# Altium integrated library TI Power Management Step-Down Regulator.IntLib: 565 symbols (part 12 of 33)
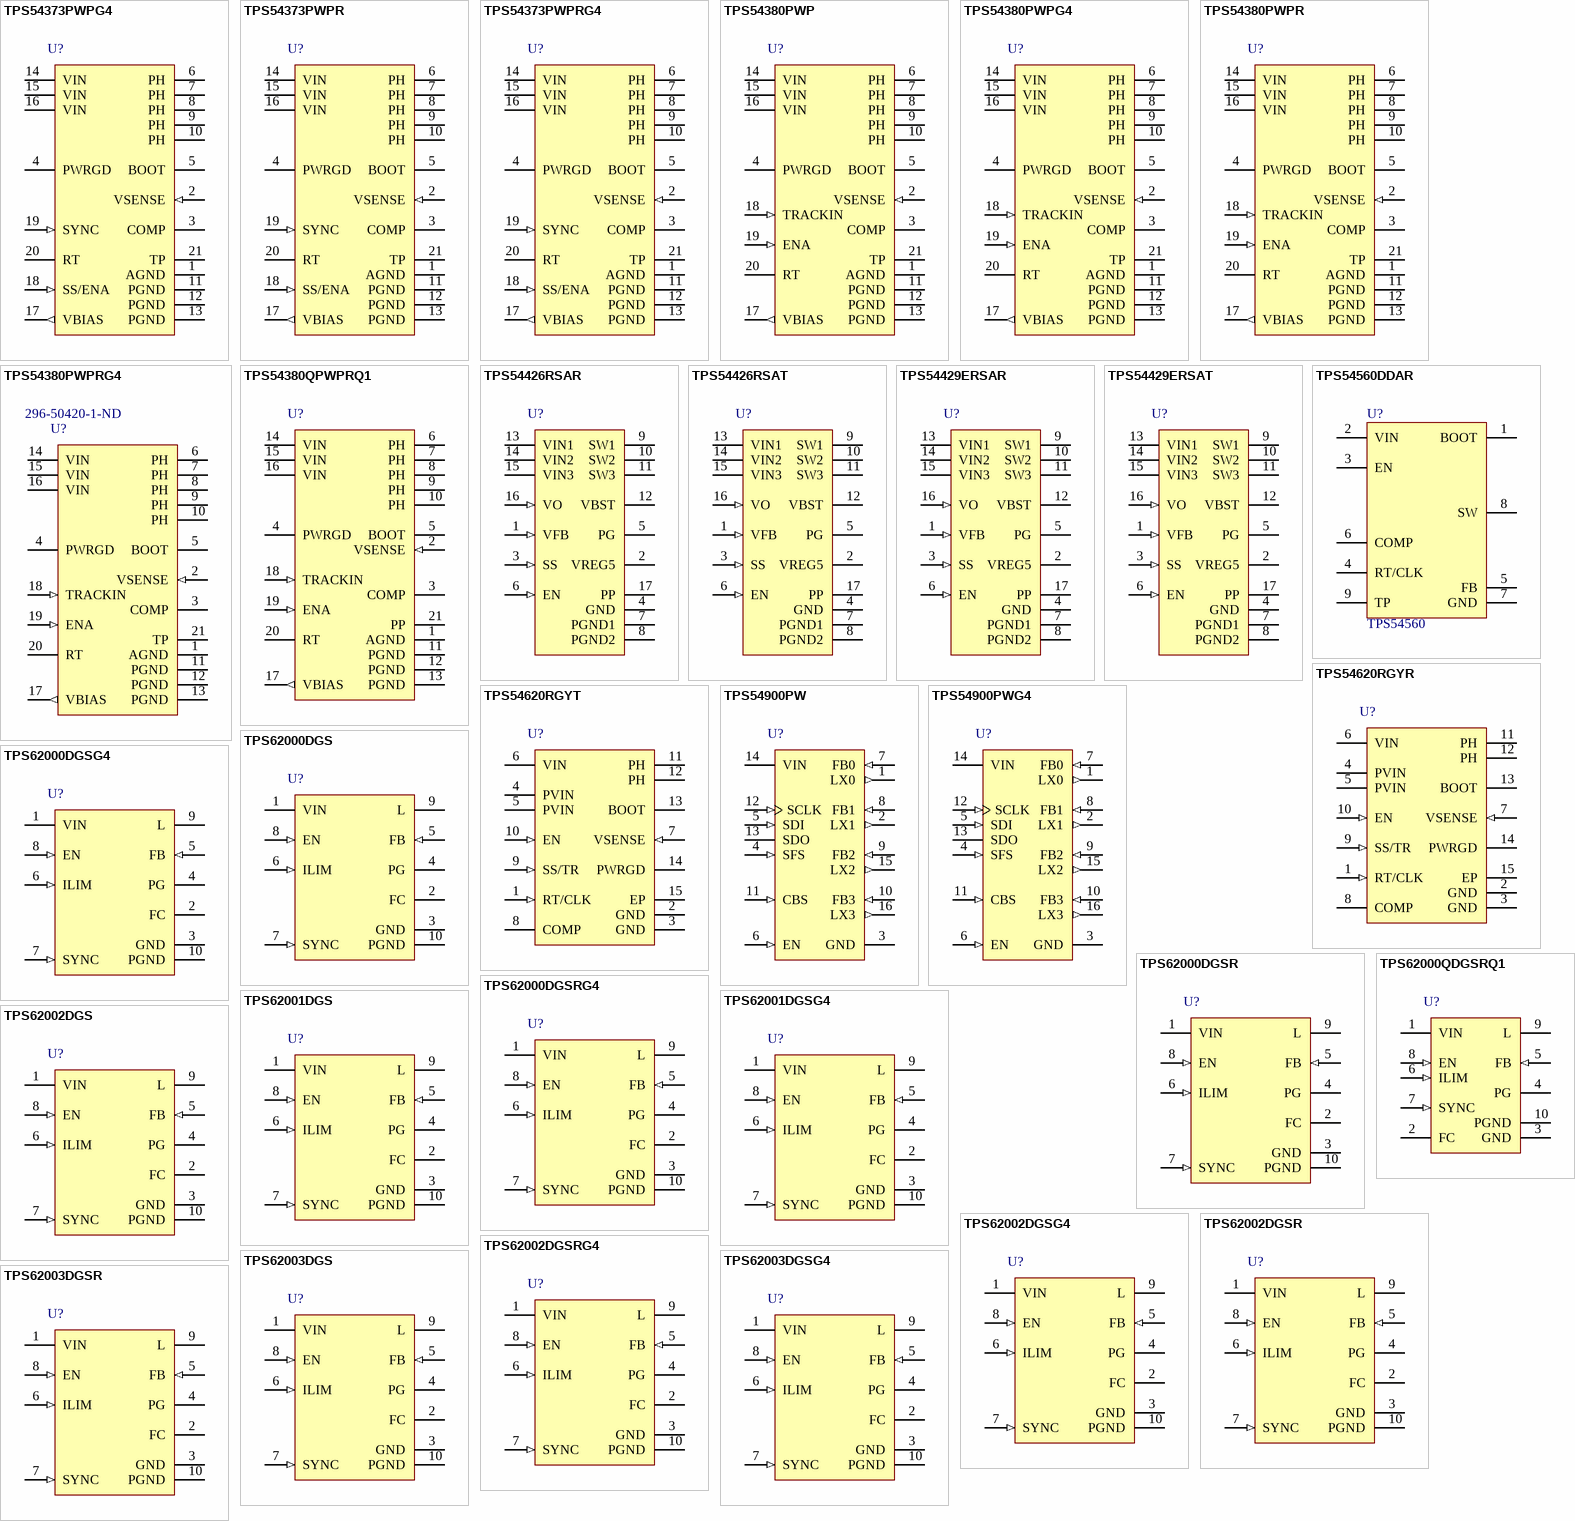
[diagram p30: symbols TPS54373PWPG4 to TPS62003DGSR]

## TPS54429ERSAT
designator U?
Buck Step Down Regulator with 7 to 18 V Input and 0.76 to 5.5 V Output, -20 to 85 degC, 16-Pin QFN (RSA), Green (RoHS & no Sb/Br); Manufacturer: Texas Instruments; PartNumber: TPS54429ERSAT; Duty Cycle(Max)(%): 98; Iout(Max)(A): 4.5; Iq(Typ)(mA): 0.6; Rating: Catalog; Regulated Outputs(#): 1; SubFamily: Step-Down Regulator; Switch Current Limit(Typ)(A): 5.3; Synchronous Rectification: TRUE; Vin(Max)(V): 18; Vin(Min)(V): 7; Vout(Max)(V): 5.5; Vout(Min)(V): 0.76; DatasheetVersion: SLVSAS0; PackageVersion: revD, Jun-2011; PackageReference: RSA16-2700X2700TP; PackageDescription: 16-Pin Plastic Quad Flatpack No-Lead 0.65 mm Pitch; Supplier 1: Digi-Key; Supplier Part Number 1: TPS54429ERSAT-ND; Eco-Plan: Green (RoHS & no Sb/Br); Topology: Buck; Mounting Technology: Surface Mount; Code_JEDEC: MO-220; ComponentLink1Description: Datasheet; ComponentLink1URL: http://www.ti.com/general/docs/lit/getliterature.tsp?genericPartNumber=TPS54429E&fileType=pdf; ComponentLink2Description: Package Specification; ComponentLink2URL: http://www.ti.com/litv/pdf/mpqf145c; ComponentLink3Description: URL Link1; ComponentLink3URL: Samples URL:http://www.ti.com/product/tps54611#samples
footprint RSA16-2700X2700TP (QFN, 16-Leads, Body 4x4mm, Pitch 0.65mm, Thermal Pad 2.7x2.7mm, TI Recommended)
pins: 1 VFB (in) "Converter feedback input. Connect to output voltage with feedback resistor divider", 2 VREG5 (power) "5.5V power supply output A capacitor (typical 1 uF) should be connected to GND. VREG5 is not active when EN is low.", 3 SS (in) "Soft-start control. A external capacitor should be connected to GND.", 4 GND (power) "Signal ground pin.", 5 PG (oc) "Open drain power good output.", 6 EN (in) "Enable control input. EN is active high and must be pulled up to enable the device.", 7 PGND1 (power) "Ground returns for low-side MOSFET. Also serve as inputs of current comparators. Connect PGND and GND strongly together near the IC.", 8 PGND2 (power) "Ground returns for low-side MOSFET. Also serve as inputs of current comparators. Connect PGND and GND strongly together near the IC.", 9 SW1 (power) "Switch node connection between high-side NFET and low-side NFET.Also serve as inputs to current comparators.", 10 SW2 (power) "Switch node connection between high-side NFET and low-side NFET.Also serve as inputs to current comparators.", 11 SW3 (power) "Switch node connection between high-side NFET and low-side NFET.Also serve as inputs to current comparators.", 12 VBST (power) "Supply input for high-side NFETgatedriver(boost terminnal )Connect capacitor from this pin to respective SW1,SW2 terminals.An internal PN diode is connected between VREG5 to VBST pin", 13 VIN1 (power) "Power input and connected to high side NFNT drain .Supply input for 5-V internal linear regulator for the control circuitry.", 14 VIN2 (power) "Power input and connected to high side NFNT drain .Supply input for 5-V internal linear regulator for the control circuitry.", 15 VIN3 (power) "Power input and connected to high side NFNT drain .Supply input for 5-V internal linear regulator for the control circuitry.", 16 VO (in) "Connect to output of converter. This terminal is used for On-Time Adjustment", 17 PP (power) "Thermal pad of the package. Must be soldered to achieve appropriate dissipation. Should be  connected to PGND"

## TPS54560DDAR
designator U?, comment TPS54560
60V/5A Non-Synchronous Buck (test spin); Manufacturer 1: Texas Instruments; Manufacturer Part Number 1: TPS54560DDAR; Switching Frequency: 2.5MHz; Number of Outputs: 1; Output Current: 5A; Min Input Voltage: 4.5V; Max Input Voltage: 60V; Output Type: Adjustable; Min Output Voltage: 800mV; Max Output Voltage: 58.8V; Synchronous Rectifier: No; Output Configuration: Positive; Quiescent Current: 146uA; Supplier 1: Digi-Key; RoHS: Yes; Category: Voltage Regulators - Switching; Stock 1: 6439; Pricing 1: 1=5,63000, 10=5,05800, 25=4,78120, 100=3,93130, 250=3,52752, 500=3,40000, 1000=2,82625 (USD); Mount: Surface Mount; Number of Pins: 8; Min Operating Temperature: -40°C; Max Operating Temperature: 125°C; Packaging: Tape and Reel; Package Quantity: 1; Output Voltage: 58.8V; Max Output Current: 5A; Min Supply Voltage: 4.5V; Radiation Hardening: No; Lead Free: Lead Free; REACH SVHC: No SVHC; ComponentLink1URL: https://datasheet.ciiva.com/30031/tps54560-30031578.pdf?src-supplier=Avnet; ComponentLink1Description: https://datasheet.ciiva.com/30031/tps54560-30031578.pdf?src-supplier=Avnet; ComponentLink2URL: https://datasheet.ciiva.com/29739/tps54560-29739549.pdf?src-supplier=Digi-Key; ComponentLink2Description: https://datasheet.ciiva.com/29739/tps54560-29739549.pdf?src-supplier=Digi-Key; ComponentLink3URL: https://datasheet.ciiva.com/15082/tps54560-15082015.pdf?src-supplier=Digi-Key; ComponentLink3Description: https://datasheet.ciiva.com/15082/tps54560-15082015.pdf?src-supplier=Digi-Key; Value: TPS54560; Supplier Part Number 1: 296-36527-6-ND
footprint SOIC8-PWR (SOIC, 8-Leads, Body 4,90x3,90mm, Pitch 1,27mm, Thermal Pad 3,10x2,40mm, IPC Medium Density)
pins: 1 BOOT, 2 VIN, 3 EN, 4 RT/CLK, 5 FB, 6 COMP, 7 GND, 8 SW, 9 TP

## TPS54620RGYR
designator U?
Buck Step Down Regulator with 4.5 to 17 V Input and 0.8 to 15 V Output, -40 to 150 degC, 14-Pin VQFN (RGY), Green (RoHS & no Sb/Br); Manufacturer: Texas Instruments; PartNumber: TPS54620RGYR; Duty Cycle(Max)(%): 98; Iout(Max)(A): 6; Iq(Typ)(mA): 0.6; Rating: Catalog; Regulated Outputs(#): 1; SubFamily: Step-Down Regulator; Switch Current Limit(Typ)(A): 8; Synchronous Rectification: TRUE; Vin(Max)(V): 17; Vin(Min)(V): 4.5; Vout(Max)(V): 15; Vout(Min)(V): 0.8; DatasheetVersion: SLVS949C; PackageVersion: revI, Jun-2011; PackageReference: RGY14-2050X2050TP; PackageDescription: 14-Leads Plastic Quad Flatpack No-Lead, 3.5 x 3.5 x 0.9 mm Body, 0.5 mm Pitch; Supplier 1: Digi-Key; Supplier Part Number 1: 296-24554-2-ND; Eco-Plan: Green (RoHS & no Sb/Br); Topology: Buck; Mounting Technology: Surface Mount; Code_JEDEC: MO-241-BA; ComponentLink1Description: Datasheet; ComponentLink1URL: http://www.ti.com/general/docs/lit/getliterature.tsp?genericPartNumber=TPS54620&fileType=pdf; ComponentLink2Description: Package Specification; ComponentLink2URL: http://www.ti.com/litv/pdf/mpqf114g; ComponentLink3Description: URL Link1; ComponentLink3URL: Samples URL:http://www.ti.com/product/tps54620#samples
footprint RGY14-2050X2050TP (QFN, 14-Leads, Body 3.5x3.5mm, Pitch 0.5mm, Thermal Pad 2.05x2.05mm, TI Recommended)
pins: 1 RT/CLK (in) "Automatically selects between RT mode and CLK mode. An external timing resistor adjusts the switching frequency of the device; In CLK mode, the device synchronizes to an external clock.", 2 GND (power) "Return for control circuitry and low-side power MOSFET.", 3 GND (power) "Return for control circuitry and low-side power MOSFET.", 4 PVIN (power) "Power input. Supplies the power switches of the power converter", 5 PVIN (power) "Power input. Supplies the power switches of the power converter", 6 VIN (power) "Supplies the control circuitry of the power converter.", 7 VSENSE (in) "Inverting input of the gm error amplifier", 8 COMP "Error amplifier output, and input to the output switch current comparator. Connect frequency compensation to this pin.", 9 SS/TR (in) "Slow-start and tracking. An external capacitor connected to this pin sets the internal voltage reference rise time. The voltage on this pin overrides the internal reference. It can be used for tracking and sequencing.", 10 EN (in) "Enable pin. Float to enable. Adjust the input undervoltage lockout with two resistors.", 11 PH (power) "The switch node", 12 PH (power) "The switch node", 13 BOOT "A bootstrap cap is required between BOOT and PH. The voltage on this cap carries the gate drive voltage for the high-side MOSFET", 14 PWRGD (oc) "Power Good fault pin. Asserts low if output voltage is low due to thermal shutdown, dropout, over-voltage, EN shutdown or during slow start", 15 EP (power) "Thermal pad of the package and signal ground and it must be soldered down for proper operation"

## TPS54620RGYT
designator U?
Buck Step Down Regulator with 4.5 to 17 V Input and 0.8 to 15 V Output, -40 to 150 degC, 14-Pin VQFN (RGY), Green (RoHS & no Sb/Br); Manufacturer: Texas Instruments; PartNumber: TPS54620RGYT; Duty Cycle(Max)(%): 98; Iout(Max)(A): 6; Iq(Typ)(mA): 0.6; Rating: Catalog; Regulated Outputs(#): 1; SubFamily: Step-Down Regulator; Switch Current Limit(Typ)(A): 8; Synchronous Rectification: TRUE; Vin(Max)(V): 17; Vin(Min)(V): 4.5; Vout(Max)(V): 15; Vout(Min)(V): 0.8; DatasheetVersion: SLVS949C; PackageVersion: revI, Jun-2011; PackageReference: RGY14-2050X2050TP; PackageDescription: 14-Leads Plastic Quad Flatpack No-Lead, 3.5 x 3.5 x 0.9 mm Body, 0.5 mm Pitch; Supplier 1: Digi-Key; Supplier Part Number 1: 296-24568-2-ND; Eco-Plan: Green (RoHS & no Sb/Br); Topology: Buck; Mounting Technology: Surface Mount; Code_JEDEC: MO-241-BA; ComponentLink1Description: Datasheet; ComponentLink1URL: http://www.ti.com/general/docs/lit/getliterature.tsp?genericPartNumber=TPS54620&fileType=pdf; ComponentLink2Description: Package Specification; ComponentLink2URL: http://www.ti.com/litv/pdf/mpqf114g; ComponentLink3Description: URL Link1; ComponentLink3URL: Samples URL:http://www.ti.com/product/tps54620#samples
footprint RGY14-2050X2050TP (QFN, 14-Leads, Body 3.5x3.5mm, Pitch 0.5mm, Thermal Pad 2.05x2.05mm, TI Recommended)
pins: 1 RT/CLK (in) "Automatically selects between RT mode and CLK mode. An external timing resistor adjusts the switching frequency of the device; In CLK mode, the device synchronizes to an external clock.", 2 GND (power) "Return for control circuitry and low-side power MOSFET.", 3 GND (power) "Return for control circuitry and low-side power MOSFET.", 4 PVIN (power) "Power input. Supplies the power switches of the power converter", 5 PVIN (power) "Power input. Supplies the power switches of the power converter", 6 VIN (power) "Supplies the control circuitry of the power converter.", 7 VSENSE (in) "Inverting input of the gm error amplifier", 8 COMP "Error amplifier output, and input to the output switch current comparator. Connect frequency compensation to this pin.", 9 SS/TR (in) "Slow-start and tracking. An external capacitor connected to this pin sets the internal voltage reference rise time. The voltage on this pin overrides the internal reference. It can be used for tracking and sequencing.", 10 EN (in) "Enable pin. Float to enable. Adjust the input undervoltage lockout with two resistors.", 11 PH (power) "The switch node", 12 PH (power) "The switch node", 13 BOOT "A bootstrap cap is required between BOOT and PH. The voltage on this cap carries the gate drive voltage for the high-side MOSFET", 14 PWRGD (oc) "Power Good fault pin. Asserts low if output voltage is low due to thermal shutdown, dropout, over-voltage, EN shutdown or during slow start", 15 EP (power) "Thermal pad of the package and signal ground and it must be soldered down for proper operation"

## TPS54900PW
designator U?
Buck Step Down Regulator with 14.25 to 16 V Input and 7.5 to 13.1 V Output, -40 to 85 degC, 16-Pin TSSOP (PW); Manufacturer: Texas Instruments; PartNumber: TPS54900PW; Duty Cycle(Max)(%): 90; Iout(Max)(A): 0.1; Iq(Typ)(mA): 0.7; Rating: Catalog; Regulated Outputs(#): 4; SubFamily: Step-Down Regulator; Switch Current Limit(Typ)(A): 0.25; Vin(Max)(V): 16; Vin(Min)(V): 14.25; Vout(Max)(V): 13.1; Vout(Min)(V): 7.5; DatasheetVersion: SLVS405; PackageVersion: revG, Feb-2011; PackageReference: PW16; PackageDescription: 16-Pin Plastic Thin Small Outline Package 5 x 4.4 mm Body ,0.65 mm Pitch; Supplier 1: Digi-Key; Supplier Part Number 1: 296-13408-5-ND; Iout2(Max)(A): 0.1; Topology: Buck; Vout2(Max)(V): 13.1; Vout2(Min)(V): 7.5; Mounting Technology: Surface Mount; Code_JEDEC: MO-153; ComponentLink1Description: Datasheet; ComponentLink1URL: http://www.ti.com/general/docs/lit/getliterature.tsp?genericPartNumber=TPS54900&fileType=pdf; ComponentLink2Description: Package Specification; ComponentLink2URL: http://www.ti.com/litv/pdf/mpds361; ComponentLink3Description: URL Link1; ComponentLink3URL: Samples URL:http://www.ti.com/product/tps54900#samples
footprint PW16_N (TSOP, 16-Leads, Body 5x4.4mm, Pitch 0.65mm, IPC Medium Density)
footprint PW16_L (TSOP, 16-Leads, Body 5x4.4mm, Pitch 0.65mm, IPC High Density)
footprint PW16_M (TSOP, 16-Leads, Body 5x4.4mm, Pitch 0.65mm, IPC Low Density)
pins: 1 LX0 (out) "Channel 0 switch output", 2 LX1 (out) "Channel 1 switch output", 3 GND (power) "Ground", 4 SFS (in) "Frame sync input", 5 SDI (in) "Serial data in", 6 EN (in) "Enable", 7 FB0 (in) "Channel 0 feedback input", 8 FB1 (in) "Channel 1 feedback input", 9 FB2 (in) "Channel 2 feedback input", 10 FB3 (in) "Channel 3 feedback input", 11 CBS (in) "Channel bank select", 12 SCLK (in) "Serial clock input", 13 SDO (oc) "Serial data out", 14 VIN (power) "Input supply voltage", 15 LX2 (out) "Channel 2 switch output", 16 LX3 (out) "Channel 3 switch output"

## TPS54900PWG4
designator U?
Buck Step Down Regulator with 14.25 to 16 V Input and 7.5 to 13.1 V Output, -40 to 85 degC, 16-Pin TSSOP (PW); Manufacturer: Texas Instruments; PartNumber: TPS54900PWG4; Duty Cycle(Max)(%): 90; Iout(Max)(A): 0.1; Iq(Typ)(mA): 0.7; Rating: Catalog; Regulated Outputs(#): 4; SubFamily: Step-Down Regulator; Switch Current Limit(Typ)(A): 0.25; Vin(Max)(V): 16; Vin(Min)(V): 14.25; Vout(Max)(V): 13.1; Vout(Min)(V): 7.5; DatasheetVersion: SLVS405; PackageVersion: revG, Feb-2011; PackageReference: PW16; PackageDescription: 16-Pin Plastic Thin Small Outline Package 5 x 4.4 mm Body ,0.65 mm Pitch; Supplier 1: Digi-Key; Supplier Part Number 1: TPS54900PWG4-ND; Iout2(Max)(A): 0.1; Topology: Buck; Vout2(Max)(V): 13.1; Vout2(Min)(V): 7.5; Mounting Technology: Surface Mount; Code_JEDEC: MO-153; ComponentLink1Description: Datasheet; ComponentLink1URL: http://www.ti.com/general/docs/lit/getliterature.tsp?genericPartNumber=TPS54900&fileType=pdf; ComponentLink2Description: Package Specification; ComponentLink2URL: http://www.ti.com/litv/pdf/mpds361; ComponentLink3Description: URL Link1; ComponentLink3URL: Samples URL:http://www.ti.com/product/tps54611#samples
footprint PW16_N (TSOP, 16-Leads, Body 5x4.4mm, Pitch 0.65mm, IPC Medium Density)
footprint PW16_L (TSOP, 16-Leads, Body 5x4.4mm, Pitch 0.65mm, IPC High Density)
footprint PW16_M (TSOP, 16-Leads, Body 5x4.4mm, Pitch 0.65mm, IPC Low Density)
pins: 1 LX0 (out) "Channel 0 switch output", 2 LX1 (out) "Channel 1 switch output", 3 GND (power) "Ground", 4 SFS (in) "Frame sync input", 5 SDI (in) "Serial data in", 6 EN (in) "Enable", 7 FB0 (in) "Channel 0 feedback input", 8 FB1 (in) "Channel 1 feedback input", 9 FB2 (in) "Channel 2 feedback input", 10 FB3 (in) "Channel 3 feedback input", 11 CBS (in) "Channel bank select", 12 SCLK (in) "Serial clock input", 13 SDO (oc) "Serial data out", 14 VIN (power) "Input supply voltage", 15 LX2 (out) "Channel 2 switch output", 16 LX3 (out) "Channel 3 switch output"

## TPS62000DGS
designator U?
Buck Step-Down Regulator with 2 V to 5.5 V Input and 0.9 V to 5 V Output, -40 to 85 degC, 10-Pin MSOP (DGS), Green (RoHS & no Sb/Br); Manufacturer: Texas Instruments; PartNumber: TPS62000DGS; Duty Cycle(Max)(%): 100; Iout(Max)(A): 0.6; Iq(Typ)(mA): 0.05; Rating: Catalog; Regulated Outputs(#): 1; Switch Current Limit(Typ)(A): 1.6; Synchronous Rectification: TRUE; Vin(Max)(V): 5.5; Vin(Min)(V): 2; Vout(Max)(V): 5; Vout(Min)(V): 0.9; DatasheetVersion: SLVS294E; PackageVersion: revC, Feb-2004; PackageReference: DGS10; PackageDescription: 10-Pin Thin Shrink Small Outline Package 0.5 mm Pitch; Supplier 1: Digi-Key; Supplier Part Number 1: 296-27018-5-ND; Eco-Plan: Green (RoHS & no Sb/Br); SubFamily: Step-Down Regulator; Topology: Buck; Mounting Technology: Surface Mount; Code_JEDEC: MO-187-BA; ComponentLink1Description: Datasheet; ComponentLink1URL: http://www.ti.com/general/docs/lit/getliterature.tsp?genericPartNumber=TPS62000&fileType=pdf; ComponentLink2Description: Package Specification; ComponentLink2URL: http://www.ti.com/litv/pdf/mpds373
footprint DGS10_N (TSSOP, 10-Leads, Body 3x3mm, Pitch 0.5mm, IPC Medium Density)
footprint DGS10_L (TSSOP, 10-Leads, Body 3x3mm, Pitch 0.5mm, IPC High Density)
footprint DGS10_M (TSSOP, 10-Leads, Body 3x3mm, Pitch 0.5mm, IPC Low Density)
pins: 1 VIN (power) "Supply voltage input", 2 FC "Supply bypass pin. A 0.1 µF coupling capacitor should be connected as close as possible to this pin for good high frequency input voltage supply filtering.", 3 GND (power) "Ground", 4 PG (hiz) "Power good comparator output. This is an open-drain output. A pullup resistor should be connected between PG and VO. The output goes active high when the output voltage is greater than 92% of the nominal value.", 5 FB (in) "Feedback pin for the fixed output voltage option. For the adjustable version an external resistive divider is connected to FB. The internal voltage divider is disabled for the adjustable version.", 6 ILIM (in) "Switch current limit. Connect ILIM to GND to set the switch current limit to typically 600 mA, or connect this pin to VIN to set the current limit to typically 1200 mA.", 7 SYNC (in) "Input for synchronization to external clock signal. Synchronizes the converter switching frequency to an external clock signal with CMOS level:SYNC = HIGH: Low-noise mode enabled, fixed frequency PWM operation is forced SYNC (See Datasheet)", 8 EN (in) "Enable. A logic high enables the converter, logic low forces the device into shutdown mode reducing the supply current to less than 1 uA.", 9 L (power) "Connect the inductor to this pin. L is the switch pin connected to the drain of the internal power MOSFETS", 10 PGND (power) "Power ground. Connect all power grounds to PGND."

## TPS62000DGSG4
designator U?
Buck Step-Down Regulator with 2 V to 5.5 V Input and 0.9 V to 5 V Output, -40 to 85 degC, 10-Pin MSOP (DGS), Green (RoHS & no Sb/Br); Manufacturer: Texas Instruments; PartNumber: TPS62000DGSG4; Duty Cycle(Max)(%): 100; Iout(Max)(A): 0.6; Iq(Typ)(mA): 0.05; Rating: Catalog; Regulated Outputs(#): 1; Switch Current Limit(Typ)(A): 1.6; Synchronous Rectification: TRUE; Vin(Max)(V): 5.5; Vin(Min)(V): 2; Vout(Max)(V): 5; Vout(Min)(V): 0.9; DatasheetVersion: SLVS294E; PackageVersion: revC, Feb-2004; PackageReference: DGS10; PackageDescription: 10-Pin Thin Shrink Small Outline Package 0.5 mm Pitch; Supplier 1: Digi-Key; Supplier Part Number 1: TPS62000DGSG4-ND; Eco-Plan: Green (RoHS & no Sb/Br); SubFamily: Step-Down Regulator; Topology: Buck; Mounting Technology: Surface Mount; Code_JEDEC: MO-187-BA; ComponentLink1Description: Datasheet; ComponentLink1URL: http://www.ti.com/general/docs/lit/getliterature.tsp?genericPartNumber=TPS62000&fileType=pdf; ComponentLink2Description: Package Specification; ComponentLink2URL: http://www.ti.com/litv/pdf/mpds373
footprint DGS10_N (TSSOP, 10-Leads, Body 3x3mm, Pitch 0.5mm, IPC Medium Density)
footprint DGS10_L (TSSOP, 10-Leads, Body 3x3mm, Pitch 0.5mm, IPC High Density)
footprint DGS10_M (TSSOP, 10-Leads, Body 3x3mm, Pitch 0.5mm, IPC Low Density)
pins: 1 VIN (power) "Supply voltage input", 2 FC "Supply bypass pin. A 0.1 µF coupling capacitor should be connected as close as possible to this pin for good high frequency input voltage supply filtering.", 3 GND (power) "Ground", 4 PG (hiz) "Power good comparator output. This is an open-drain output. A pullup resistor should be connected between PG and VO. The output goes active high when the output voltage is greater than 92% of the nominal value.", 5 FB (in) "Feedback pin for the fixed output voltage option. For the adjustable version an external resistive divider is connected to FB. The internal voltage divider is disabled for the adjustable version.", 6 ILIM (in) "Switch current limit. Connect ILIM to GND to set the switch current limit to typically 600 mA, or connect this pin to VIN to set the current limit to typically 1200 mA.", 7 SYNC (in) "Input for synchronization to external clock signal. Synchronizes the converter switching frequency to an external clock signal with CMOS level:SYNC = HIGH: Low-noise mode enabled, fixed frequency PWM operation is forced SYNC (See Datasheet)", 8 EN (in) "Enable. A logic high enables the converter, logic low forces the device into shutdown mode reducing the supply current to less than 1 uA.", 9 L (power) "Connect the inductor to this pin. L is the switch pin connected to the drain of the internal power MOSFETS", 10 PGND (power) "Power ground. Connect all power grounds to PGND."

## TPS62000DGSR
designator U?
Buck Step-Down Regulator with 2 V to 5.5 V Input and 0.9 V to 5 V Output, -40 to 85 degC, 10-Pin MSOP (DGS), Green (RoHS & no Sb/Br); Manufacturer: Texas Instruments; PartNumber: TPS62000DGSR; Duty Cycle(Max)(%): 100; Iout(Max)(A): 0.6; Iq(Typ)(mA): 0.05; Rating: Catalog; Regulated Outputs(#): 1; Switch Current Limit(Typ)(A): 1.6; Synchronous Rectification: TRUE; Vin(Max)(V): 5.5; Vin(Min)(V): 2; Vout(Max)(V): 5; Vout(Min)(V): 0.9; DatasheetVersion: SLVS294E; PackageVersion: revC, Feb-2004; PackageReference: DGS10; PackageDescription: 10-Pin Thin Shrink Small Outline Package 0.5 mm Pitch; Supplier 1: Digi-Key; Supplier Part Number 1: 296-11611-2-ND; Eco-Plan: Green (RoHS & no Sb/Br); SubFamily: Step-Down Regulator; Topology: Buck; Mounting Technology: Surface Mount; Code_JEDEC: MO-187-BA; ComponentLink1Description: Datasheet; ComponentLink1URL: http://www.ti.com/general/docs/lit/getliterature.tsp?genericPartNumber=TPS62000&fileType=pdf; ComponentLink2Description: Package Specification; ComponentLink2URL: http://www.ti.com/litv/pdf/mpds373
footprint DGS10_N (TSSOP, 10-Leads, Body 3x3mm, Pitch 0.5mm, IPC Medium Density)
footprint DGS10_L (TSSOP, 10-Leads, Body 3x3mm, Pitch 0.5mm, IPC High Density)
footprint DGS10_M (TSSOP, 10-Leads, Body 3x3mm, Pitch 0.5mm, IPC Low Density)
pins: 1 VIN (power) "Supply voltage input", 2 FC "Supply bypass pin. A 0.1 µF coupling capacitor should be connected as close as possible to this pin for good high frequency input voltage supply filtering.", 3 GND (power) "Ground", 4 PG (hiz) "Power good comparator output. This is an open-drain output. A pullup resistor should be connected between PG and VO. The output goes active high when the output voltage is greater than 92% of the nominal value.", 5 FB (in) "Feedback pin for the fixed output voltage option. For the adjustable version an external resistive divider is connected to FB. The internal voltage divider is disabled for the adjustable version.", 6 ILIM (in) "Switch current limit. Connect ILIM to GND to set the switch current limit to typically 600 mA, or connect this pin to VIN to set the current limit to typically 1200 mA.", 7 SYNC (in) "Input for synchronization to external clock signal. Synchronizes the converter switching frequency to an external clock signal with CMOS level:SYNC = HIGH: Low-noise mode enabled, fixed frequency PWM operation is forced SYNC (See Datasheet)", 8 EN (in) "Enable. A logic high enables the converter, logic low forces the device into shutdown mode reducing the supply current to less than 1 uA.", 9 L (power) "Connect the inductor to this pin. L is the switch pin connected to the drain of the internal power MOSFETS", 10 PGND (power) "Power ground. Connect all power grounds to PGND."

## TPS62000DGSRG4
designator U?
Buck Step-Down Regulator with 2 V to 5.5 V Input and 0.9 V to 5 V Output, -40 to 85 degC, 10-Pin MSOP (DGS), Green (RoHS & no Sb/Br); Manufacturer: Texas Instruments; PartNumber: TPS62000DGSRG4; Duty Cycle(Max)(%): 100; Iout(Max)(A): 0.6; Iq(Typ)(mA): 0.05; Rating: Catalog; Regulated Outputs(#): 1; Switch Current Limit(Typ)(A): 1.6; Synchronous Rectification: TRUE; Vin(Max)(V): 5.5; Vin(Min)(V): 2; Vout(Max)(V): 5; Vout(Min)(V): 0.9; DatasheetVersion: SLVS294E; PackageVersion: revC, Feb-2004; PackageReference: DGS10; PackageDescription: 10-Pin Thin Shrink Small Outline Package 0.5 mm Pitch; Supplier 1: Digi-Key; Supplier Part Number 1: TPS62000DGSRG4-ND; Eco-Plan: Green (RoHS & no Sb/Br); SubFamily: Step-Down Regulator; Topology: Buck; Mounting Technology: Surface Mount; Code_JEDEC: MO-187-BA; ComponentLink1Description: Datasheet; ComponentLink1URL: http://www.ti.com/general/docs/lit/getliterature.tsp?genericPartNumber=TPS62000&fileType=pdf; ComponentLink2Description: Package Specification; ComponentLink2URL: http://www.ti.com/litv/pdf/mpds373
footprint DGS10_N (TSSOP, 10-Leads, Body 3x3mm, Pitch 0.5mm, IPC Medium Density)
footprint DGS10_L (TSSOP, 10-Leads, Body 3x3mm, Pitch 0.5mm, IPC High Density)
footprint DGS10_M (TSSOP, 10-Leads, Body 3x3mm, Pitch 0.5mm, IPC Low Density)
pins: 1 VIN (power) "Supply voltage input", 2 FC "Supply bypass pin. A 0.1 µF coupling capacitor should be connected as close as possible to this pin for good high frequency input voltage supply filtering.", 3 GND (power) "Ground", 4 PG (hiz) "Power good comparator output. This is an open-drain output. A pullup resistor should be connected between PG and VO. The output goes active high when the output voltage is greater than 92% of the nominal value.", 5 FB (in) "Feedback pin for the fixed output voltage option. For the adjustable version an external resistive divider is connected to FB. The internal voltage divider is disabled for the adjustable version.", 6 ILIM (in) "Switch current limit. Connect ILIM to GND to set the switch current limit to typically 600 mA, or connect this pin to VIN to set the current limit to typically 1200 mA.", 7 SYNC (in) "Input for synchronization to external clock signal. Synchronizes the converter switching frequency to an external clock signal with CMOS level:SYNC = HIGH: Low-noise mode enabled, fixed frequency PWM operation is forced SYNC (See Datasheet)", 8 EN (in) "Enable. A logic high enables the converter, logic low forces the device into shutdown mode reducing the supply current to less than 1 uA.", 9 L (power) "Connect the inductor to this pin. L is the switch pin connected to the drain of the internal power MOSFETS", 10 PGND (power) "Power ground. Connect all power grounds to PGND."

## TPS62000QDGSRQ1
designator U?
Buck Step Down Regulator with 2 to 5.5 V Input and 0.9 to 5 V Output, -40 to 125 degC, 10-Pin MSOP (DGS), Green (RoHS & no Sb/Br); Manufacturer: Texas Instruments; PartNumber: TPS62000QDGSRQ1; Duty Cycle(Max)(%): 100; Iout(Max)(A): 0.6; Iq(Typ)(mA): 0.05; Rating: Automotive; Regulated Outputs(#): 1; SubFamily: Step-Down Regulator; Switch Current Limit(Typ)(A): 1.6; Synchronous Rectification: TRUE; Vin(Max)(V): 5.5; Vin(Min)(V): 2; Vout(Max)(V): 5; Vout(Min)(V): 0.9; DatasheetVersion: SGLS243A; PackageVersion: revC, Feb-2004; PackageReference: DGS10; PackageDescription: 10-Pin Thin Shrink Small Outline Package 0.5 mm Pitch; Supplier 1: Digi-Key; Supplier Part Number 1: 296-23767-2-ND; Eco-Plan: Green (RoHS & no Sb/Br); Topology: Buck; Mounting Technology: Surface Mount; Code_JEDEC: MO-187-BA; ComponentLink1Description: Datasheet; ComponentLink1URL: http://www.ti.com/general/docs/lit/getliterature.tsp?genericPartNumber=TPS62000-Q1&fileType=pdf; ComponentLink2Description: Package Specification; ComponentLink2URL: http://www.ti.com/litv/pdf/mpds373; ComponentLink3Description: URL Link1; ComponentLink3URL: Samples URL:http://www.ti.com/product/tps54611#samples
footprint DGS10_N (TSSOP, 10-Leads, Body 3x3mm, Pitch 0.5mm, IPC Medium Density)
footprint DGS10_L (TSSOP, 10-Leads, Body 3x3mm, Pitch 0.5mm, IPC High Density)
footprint DGS10_M (TSSOP, 10-Leads, Body 3x3mm, Pitch 0.5mm, IPC Low Density)
pins: 1 VIN (power) "Supply voltage input", 2 FC "Supply bypass pin. A 0.1-µF coupling capacitor should be connected as close as possible to this pin for good high frequency input voltage supply filtering.", 3 GND (power) "Ground", 4 PG (hiz) "Power good comparator output. This is an open-drain output. A pullup resistor should be connected between PG and VO. The output goes active high when the output voltage is greater than 92% of the nominal value.", 5 FB (in) "Feedback pin for the fixed output voltage option. For the adjustable version, an external resistive divider is connected to FB. The internal voltage divider is disabled for the adjustable version.", 6 ILIM (in) "Switch current limit. Connect ILIM to GND to set the switch current limit to typically 600 mA, or connect this pin to VIN to set the current limit to typically 1200 mA.", 7 SYNC (in) "Input for synchronization to external clock signal. Synchronizes the converter switching frequency to an external clock signal with CMOS level: SYNC = High: Low-noise mode enabled, fixed frequency PWM operation is forced (See Datasheet)", 8 EN (in) "Enable. A logic high enables the converter and a logic low forces the device into shutdown mode reducing the supply current to less than 1 µA.", 9 L (power) "Connect the inductor to this pin. L is the switch pin connected to the drain of the internal power MOSFETS.", 10 PGND (power) "Power ground. Connect all power grounds to PGND."

## TPS62001DGS
designator U?
Buck Step-Down Regulator with 2 V to 5.5 V Input and 0.9 V Output, -40 to 85 degC, 10-Pin MSOP (DGS); Manufacturer: Texas Instruments; PartNumber: TPS62001DGS; Duty Cycle(Max)(%): 100; Eco-Plan: TBD; Iout(Max)(A): 0.6; Iq(Typ)(mA): 0.05; Preset Vout(V): 0.9; Rating: Catalog; Regulated Outputs(#): 1; Switch Current Limit(Typ)(A): 1.6; Synchronous Rectification: TRUE; Vin(Max)(V): 5.5; Vin(Min)(V): 2; DatasheetVersion: SLVS294E; PackageVersion: revC, Feb-2004; PackageReference: DGS10; PackageDescription: 10-Pin Thin Shrink Small Outline Package 0.5 mm Pitch; Supplier 1: Digi-Key; Supplier Part Number 1: TPS62001DGS-ND; SubFamily: Step-Down Regulator; Topology: Buck; Vout(Max)(V): 0.9; Vout(Min)(V): 0.9; Mounting Technology: Surface Mount; Code_JEDEC: MO-187-BA; ComponentLink1Description: Datasheet; ComponentLink1URL: http://www.ti.com/general/docs/lit/getliterature.tsp?genericPartNumber=TPS62001&fileType=pdf; ComponentLink2Description: Package Specification; ComponentLink2URL: http://www.ti.com/litv/pdf/mpds373
footprint DGS10_N (TSSOP, 10-Leads, Body 3x3mm, Pitch 0.5mm, IPC Medium Density)
footprint DGS10_L (TSSOP, 10-Leads, Body 3x3mm, Pitch 0.5mm, IPC High Density)
footprint DGS10_M (TSSOP, 10-Leads, Body 3x3mm, Pitch 0.5mm, IPC Low Density)
pins: 1 VIN (power) "Supply voltage input", 2 FC "Supply bypass pin. A 0.1 µF coupling capacitor should be connected as close as possible to this pin for good high frequency input voltage supply filtering.", 3 GND (power) "Ground", 4 PG (hiz) "Power good comparator output. This is an open-drain output. A pullup resistor should be connected between PG and VO. The output goes active high when the output voltage is greater than 92% of the nominal value.", 5 FB (in) "Feedback pin for the fixed output voltage option. For the adjustable version an external resistive divider is connected to FB. The internal voltage divider is disabled for the adjustable version.", 6 ILIM (in) "Switch current limit. Connect ILIM to GND to set the switch current limit to typically 600 mA, or connect this pin to VIN to set the current limit to typically 1200 mA.", 7 SYNC (in) "Input for synchronization to external clock signal. Synchronizes the converter switching frequency to an external clock signal with CMOS level:SYNC = HIGH: Low-noise mode enabled, fixed frequency PWM operation is forced SYNC (See Datasheet)", 8 EN (in) "Enable. A logic high enables the converter, logic low forces the device into shutdown mode reducing the supply current to less than 1 uA.", 9 L (power) "Connect the inductor to this pin. L is the switch pin connected to the drain of the internal power MOSFETS.", 10 PGND (power) "Power ground. Connect all power grounds to PGND."

## TPS62001DGSG4
designator U?
Buck Step-Down Regulator with 2 V to 5.5 V Input and 0.9 V Output, -40 to 85 degC, 10-Pin MSOP (DGS); Manufacturer: Texas Instruments; PartNumber: TPS62001DGSG4; Duty Cycle(Max)(%): 100; Eco-Plan: TBD; Iout(Max)(A): 0.6; Iq(Typ)(mA): 0.05; Preset Vout(V): 0.9; Rating: Catalog; Regulated Outputs(#): 1; Switch Current Limit(Typ)(A): 1.6; Synchronous Rectification: TRUE; Vin(Max)(V): 5.5; Vin(Min)(V): 2; DatasheetVersion: SLVS294E; PackageVersion: revC, Feb-2004; PackageReference: DGS10; PackageDescription: 10-Pin Thin Shrink Small Outline Package 0.5 mm Pitch; Supplier 1: Digi-Key; Supplier Part Number 1: TPS62001DGSG4-ND; SubFamily: Step-Down Regulator; Topology: Buck; Vout(Max)(V): 0.9; Vout(Min)(V): 0.9; Mounting Technology: Surface Mount; Code_JEDEC: MO-187-BA; ComponentLink1Description: Datasheet; ComponentLink1URL: http://www.ti.com/general/docs/lit/getliterature.tsp?genericPartNumber=TPS62001&fileType=pdf; ComponentLink2Description: Package Specification; ComponentLink2URL: http://www.ti.com/litv/pdf/mpds373
footprint DGS10_N (TSSOP, 10-Leads, Body 3x3mm, Pitch 0.5mm, IPC Medium Density)
footprint DGS10_L (TSSOP, 10-Leads, Body 3x3mm, Pitch 0.5mm, IPC High Density)
footprint DGS10_M (TSSOP, 10-Leads, Body 3x3mm, Pitch 0.5mm, IPC Low Density)
pins: 1 VIN (power) "Supply voltage input", 2 FC "Supply bypass pin. A 0.1 µF coupling capacitor should be connected as close as possible to this pin for good high frequency input voltage supply filtering.", 3 GND (power) "Ground", 4 PG (hiz) "Power good comparator output. This is an open-drain output. A pullup resistor should be connected between PG and VO. The output goes active high when the output voltage is greater than 92% of the nominal value.", 5 FB (in) "Feedback pin for the fixed output voltage option. For the adjustable version an external resistive divider is connected to FB. The internal voltage divider is disabled for the adjustable version.", 6 ILIM (in) "Switch current limit. Connect ILIM to GND to set the switch current limit to typically 600 mA, or connect this pin to VIN to set the current limit to typically 1200 mA.", 7 SYNC (in) "Input for synchronization to external clock signal. Synchronizes the converter switching frequency to an external clock signal with CMOS level:SYNC = HIGH: Low-noise mode enabled, fixed frequency PWM operation is forced SYNC (See Datasheet)", 8 EN (in) "Enable. A logic high enables the converter, logic low forces the device into shutdown mode reducing the supply current to less than 1 uA.", 9 L (power) "Connect the inductor to this pin. L is the switch pin connected to the drain of the internal power MOSFETS.", 10 PGND (power) "Power ground. Connect all power grounds to PGND."

## TPS62002DGS
designator U?
Buck Step-Down Regulator with 2 V to 5.5 V Input and 1 V Output, -40 to 85 degC, 10-Pin MSOP (DGS), Green (RoHS & no Sb/Br); Manufacturer: Texas Instruments; PartNumber: TPS62002DGS; Duty Cycle(Max)(%): 100; Iout(Max)(A): 0.6; Iq(Typ)(mA): 0.05; Preset Vout(V): 1; Rating: Catalog; Switch Current Limit(Typ)(A): 1.6; Synchronous Rectification: TRUE; Vin(Max)(V): 5.5; Vin(Min)(V): 2; DatasheetVersion: SLVS294E; PackageVersion: revC, Feb-2004; PackageReference: DGS10; PackageDescription: 10-Pin Thin Shrink Small Outline Package 0.5 mm Pitch; Supplier 1: Digi-Key; Supplier Part Number 1: 296-34630-5-ND; Eco-Plan: Green (RoHS & no Sb/Br); Regulated Outputs(#): 1; SubFamily: Step-Down Regulator; Topology: Buck; Vout(Max)(V): 1; Vout(Min)(V): 1; Mounting Technology: Surface Mount; Code_JEDEC: MO-187-BA; ComponentLink1Description: Datasheet; ComponentLink1URL: http://www.ti.com/general/docs/lit/getliterature.tsp?genericPartNumber=TPS62002&fileType=pdf; ComponentLink2Description: Package Specification; ComponentLink2URL: http://www.ti.com/litv/pdf/mpds373
footprint DGS10_N (TSSOP, 10-Leads, Body 3x3mm, Pitch 0.5mm, IPC Medium Density)
footprint DGS10_L (TSSOP, 10-Leads, Body 3x3mm, Pitch 0.5mm, IPC High Density)
footprint DGS10_M (TSSOP, 10-Leads, Body 3x3mm, Pitch 0.5mm, IPC Low Density)
pins: 1 VIN (power) "ISupply voltage input", 2 FC "Supply bypass pin. A 0.1 µF coupling capacitor should be connected as close as possible to this pin for good high frequency input voltage supply filtering.", 3 GND (power) "Ground", 4 PG (hiz) "Power good comparator output. This is an open-drain output. A pullup resistor should be connected between PG and VO. The output goes active high when the output voltage is greater than 92% of the nominal value.", 5 FB (in) "Feedback pin for the fixed output voltage option. For the adjustable version an external resistive divider is connected to FB. The internal voltage divider is disabled for the adjustable version.", 6 ILIM (in) "Switch current limit. Connect ILIM to GND to set the switch current limit to typically 600 mA, or connect this pin to VIN to set the current limit to typically 1200 mA.", 7 SYNC (in) "Input for synchronization to external clock signal. Synchronizes the converter switching frequency to an external clock signal with CMOS level:SYNC = HIGH: Low-noise mode enabled, fixed frequency PWM operation is forced SYNC (See Datasheet)", 8 EN (in) "Enable. A logic high enables the converter, logic low forces the device into shutdown mode reducing the supply current to less than 1 uA.", 9 L (power) "Connect the inductor to this pin. L is the switch pin connected to the drain of the internal power MOSFETS.", 10 PGND (power) "Power ground. Connect all power grounds to PGND."

## TPS62002DGSG4
designator U?
Buck Step-Down Regulator with 2 V to 5.5 V Input and 1 V Output, -40 to 85 degC, 10-Pin MSOP (DGS), Green (RoHS & no Sb/Br); Manufacturer: Texas Instruments; PartNumber: TPS62002DGSG4; Duty Cycle(Max)(%): 100; Iout(Max)(A): 0.6; Iq(Typ)(mA): 0.05; Preset Vout(V): 1; Rating: Catalog; Switch Current Limit(Typ)(A): 1.6; Synchronous Rectification: TRUE; Vin(Max)(V): 5.5; Vin(Min)(V): 2; DatasheetVersion: SLVS294E; PackageVersion: revC, Feb-2004; PackageReference: DGS10; PackageDescription: 10-Pin Thin Shrink Small Outline Package 0.5 mm Pitch; Supplier 1: Digi-Key; Supplier Part Number 1: TPS62002DGSG4-ND; Eco-Plan: Green (RoHS & no Sb/Br); Regulated Outputs(#): 1; SubFamily: Step-Down Regulator; Topology: Buck; Vout(Max)(V): 1; Vout(Min)(V): 1; Mounting Technology: Surface Mount; Code_JEDEC: MO-187-BA; ComponentLink1Description: Datasheet; ComponentLink1URL: http://www.ti.com/general/docs/lit/getliterature.tsp?genericPartNumber=TPS62002&fileType=pdf; ComponentLink2Description: Package Specification; ComponentLink2URL: http://www.ti.com/litv/pdf/mpds373
footprint DGS10_N (TSSOP, 10-Leads, Body 3x3mm, Pitch 0.5mm, IPC Medium Density)
footprint DGS10_L (TSSOP, 10-Leads, Body 3x3mm, Pitch 0.5mm, IPC High Density)
footprint DGS10_M (TSSOP, 10-Leads, Body 3x3mm, Pitch 0.5mm, IPC Low Density)
pins: 1 VIN (power) "ISupply voltage input", 2 FC "Supply bypass pin. A 0.1 µF coupling capacitor should be connected as close as possible to this pin for good high frequency input voltage supply filtering.", 3 GND (power) "Ground", 4 PG (hiz) "Power good comparator output. This is an open-drain output. A pullup resistor should be connected between PG and VO. The output goes active high when the output voltage is greater than 92% of the nominal value.", 5 FB (in) "Feedback pin for the fixed output voltage option. For the adjustable version an external resistive divider is connected to FB. The internal voltage divider is disabled for the adjustable version.", 6 ILIM (in) "Switch current limit. Connect ILIM to GND to set the switch current limit to typically 600 mA, or connect this pin to VIN to set the current limit to typically 1200 mA.", 7 SYNC (in) "Input for synchronization to external clock signal. Synchronizes the converter switching frequency to an external clock signal with CMOS level:SYNC = HIGH: Low-noise mode enabled, fixed frequency PWM operation is forced SYNC (See Datasheet)", 8 EN (in) "Enable. A logic high enables the converter, logic low forces the device into shutdown mode reducing the supply current to less than 1 uA.", 9 L (power) "Connect the inductor to this pin. L is the switch pin connected to the drain of the internal power MOSFETS.", 10 PGND (power) "Power ground. Connect all power grounds to PGND."

## TPS62002DGSR
designator U?
Buck Step-Down Regulator with 2 V to 5.5 V Input and 1 V Output, -40 to 85 degC, 10-Pin MSOP (DGS), Green (RoHS & no Sb/Br); Manufacturer: Texas Instruments; PartNumber: TPS62002DGSR; Duty Cycle(Max)(%): 100; Iout(Max)(A): 0.6; Iq(Typ)(mA): 0.05; Preset Vout(V): 1; Rating: Catalog; Switch Current Limit(Typ)(A): 1.6; Synchronous Rectification: TRUE; Vin(Max)(V): 5.5; Vin(Min)(V): 2; DatasheetVersion: SLVS294E; PackageVersion: revC, Feb-2004; PackageReference: DGS10; PackageDescription: 10-Pin Thin Shrink Small Outline Package 0.5 mm Pitch; Supplier 1: Digi-Key; Supplier Part Number 1: 296-11613-2-ND; Eco-Plan: Green (RoHS & no Sb/Br); Regulated Outputs(#): 1; SubFamily: Step-Down Regulator; Topology: Buck; Vout(Max)(V): 1; Vout(Min)(V): 1; Mounting Technology: Surface Mount; Code_JEDEC: MO-187-BA; ComponentLink1Description: Datasheet; ComponentLink1URL: http://www.ti.com/general/docs/lit/getliterature.tsp?genericPartNumber=TPS62002&fileType=pdf; ComponentLink2Description: Package Specification; ComponentLink2URL: http://www.ti.com/litv/pdf/mpds373
footprint DGS10_N (TSSOP, 10-Leads, Body 3x3mm, Pitch 0.5mm, IPC Medium Density)
footprint DGS10_L (TSSOP, 10-Leads, Body 3x3mm, Pitch 0.5mm, IPC High Density)
footprint DGS10_M (TSSOP, 10-Leads, Body 3x3mm, Pitch 0.5mm, IPC Low Density)
pins: 1 VIN (power) "ISupply voltage input", 2 FC "Supply bypass pin. A 0.1 µF coupling capacitor should be connected as close as possible to this pin for good high frequency input voltage supply filtering.", 3 GND (power) "Ground", 4 PG (hiz) "Power good comparator output. This is an open-drain output. A pullup resistor should be connected between PG and VO. The output goes active high when the output voltage is greater than 92% of the nominal value.", 5 FB (in) "Feedback pin for the fixed output voltage option. For the adjustable version an external resistive divider is connected to FB. The internal voltage divider is disabled for the adjustable version.", 6 ILIM (in) "Switch current limit. Connect ILIM to GND to set the switch current limit to typically 600 mA, or connect this pin to VIN to set the current limit to typically 1200 mA.", 7 SYNC (in) "Input for synchronization to external clock signal. Synchronizes the converter switching frequency to an external clock signal with CMOS level:SYNC = HIGH: Low-noise mode enabled, fixed frequency PWM operation is forced SYNC (See Datasheet)", 8 EN (in) "Enable. A logic high enables the converter, logic low forces the device into shutdown mode reducing the supply current to less than 1 uA.", 9 L (power) "Connect the inductor to this pin. L is the switch pin connected to the drain of the internal power MOSFETS.", 10 PGND (power) "Power ground. Connect all power grounds to PGND."

## TPS62002DGSRG4
designator U?
Buck Step-Down Regulator with 2 V to 5.5 V Input and 1 V Output, -40 to 85 degC, 10-Pin MSOP (DGS), Green (RoHS & no Sb/Br); Manufacturer: Texas Instruments; PartNumber: TPS62002DGSRG4; Duty Cycle(Max)(%): 100; Iout(Max)(A): 0.6; Iq(Typ)(mA): 0.05; Preset Vout(V): 1; Rating: Catalog; Switch Current Limit(Typ)(A): 1.6; Synchronous Rectification: TRUE; Vin(Max)(V): 5.5; Vin(Min)(V): 2; DatasheetVersion: SLVS294E; PackageVersion: revC, Feb-2004; PackageReference: DGS10; PackageDescription: 10-Pin Thin Shrink Small Outline Package 0.5 mm Pitch; Supplier 1: Digi-Key; Supplier Part Number 1: TPS62002DGSRG4-ND; Eco-Plan: Green (RoHS & no Sb/Br); Regulated Outputs(#): 1; SubFamily: Step-Down Regulator; Topology: Buck; Vout(Max)(V): 1; Vout(Min)(V): 1; Mounting Technology: Surface Mount; Code_JEDEC: MO-187-BA; ComponentLink1Description: Datasheet; ComponentLink1URL: http://www.ti.com/general/docs/lit/getliterature.tsp?genericPartNumber=TPS62002&fileType=pdf; ComponentLink2Description: Package Specification; ComponentLink2URL: http://www.ti.com/litv/pdf/mpds373
footprint DGS10_N (TSSOP, 10-Leads, Body 3x3mm, Pitch 0.5mm, IPC Medium Density)
footprint DGS10_L (TSSOP, 10-Leads, Body 3x3mm, Pitch 0.5mm, IPC High Density)
footprint DGS10_M (TSSOP, 10-Leads, Body 3x3mm, Pitch 0.5mm, IPC Low Density)
pins: 1 VIN (power) "ISupply voltage input", 2 FC "Supply bypass pin. A 0.1 µF coupling capacitor should be connected as close as possible to this pin for good high frequency input voltage supply filtering.", 3 GND (power) "Ground", 4 PG (hiz) "Power good comparator output. This is an open-drain output. A pullup resistor should be connected between PG and VO. The output goes active high when the output voltage is greater than 92% of the nominal value.", 5 FB (in) "Feedback pin for the fixed output voltage option. For the adjustable version an external resistive divider is connected to FB. The internal voltage divider is disabled for the adjustable version.", 6 ILIM (in) "Switch current limit. Connect ILIM to GND to set the switch current limit to typically 600 mA, or connect this pin to VIN to set the current limit to typically 1200 mA.", 7 SYNC (in) "Input for synchronization to external clock signal. Synchronizes the converter switching frequency to an external clock signal with CMOS level:SYNC = HIGH: Low-noise mode enabled, fixed frequency PWM operation is forced SYNC (See Datasheet)", 8 EN (in) "Enable. A logic high enables the converter, logic low forces the device into shutdown mode reducing the supply current to less than 1 uA.", 9 L (power) "Connect the inductor to this pin. L is the switch pin connected to the drain of the internal power MOSFETS.", 10 PGND (power) "Power ground. Connect all power grounds to PGND."

## TPS62003DGS
designator U?
Buck Step-Down Regulator with 2 V to 5.5 V Input and 1.2 V Output, -40 to 85 degC, 10-Pin MSOP (DGS), Green (RoHS & no Sb/Br); Manufacturer: Texas Instruments; PartNumber: TPS62003DGS; Duty Cycle(Max)(%): 100; Iout(Max)(A): 0.6; Iq(Typ)(mA): 0.05; Preset Vout(V): 1.2; Rating: Catalog; Regulated Outputs(#): 1; Switch Current Limit(Typ)(A): 1.6; Synchronous Rectification: TRUE; Vin(Max)(V): 5.5; Vin(Min)(V): 2; DatasheetVersion: SLVS294E; PackageVersion: revC, Feb-2004; PackageReference: DGS10; PackageDescription: 10-Pin Thin Shrink Small Outline Package 0.5 mm Pitch; Supplier 1: Digi-Key; Supplier Part Number 1: 296-27019-5-ND; Eco-Plan: Green (RoHS & no Sb/Br); SubFamily: Step-Down Regulator; Topology: Buck; Vout(Max)(V): 1.2; Vout(Min)(V): 1.2; Mounting Technology: Surface Mount; Code_JEDEC: MO-187-BA; ComponentLink1Description: Datasheet; ComponentLink1URL: http://www.ti.com/general/docs/lit/getliterature.tsp?genericPartNumber=TPS62003&fileType=pdf; ComponentLink2Description: Package Specification; ComponentLink2URL: http://www.ti.com/litv/pdf/mpds373
footprint DGS10_N (TSSOP, 10-Leads, Body 3x3mm, Pitch 0.5mm, IPC Medium Density)
footprint DGS10_L (TSSOP, 10-Leads, Body 3x3mm, Pitch 0.5mm, IPC High Density)
footprint DGS10_M (TSSOP, 10-Leads, Body 3x3mm, Pitch 0.5mm, IPC Low Density)
pins: 1 VIN (power) "Supply voltage input", 2 FC "Supply bypass pin. A 0.1 µF coupling capacitor should be connected as close as possible to this pin for good high frequency input voltage supply filtering.", 3 GND (power) "Ground", 4 PG (hiz) "Power good comparator output. This is an open-drain output. A pullup resistor should be connected between PG and VO. The output goes active high when the output voltage is greater than 92% of the nominal value.", 5 FB (in) "Feedback pin for the fixed output voltage option. For the adjustable version an external resistive divider is connected to FB. The internal voltage divider is disabled for the adjustable version.", 6 ILIM (in) "Switch current limit. Connect ILIM to GND to set the switch current limit to typically 600 mA, or connect this pin to VIN to set the current limit to typically 1200 mA.", 7 SYNC (in) "Input for synchronization to external clock signal. Synchronizes the converter switching frequency to an external clock signal with CMOS level:SYNC = HIGH: Low-noise mode enabled, fixed frequency PWM operation is forced SYNC (See Datasheet)", 8 EN (in) "Enable. A logic high enables the converter, logic low forces the device into shutdown mode reducing the supply current to less than 1 uA.", 9 L (power) "Connect the inductor to this pin. L is the switch pin connected to the drain of the internal power MOSFETS", 10 PGND (power) "Power ground. Connect all power grounds to PGND."